# Altium schematic symbol library SchLib.SCHLIB: 71 symbols
Pins are listed as number, name and electrical type; pins without a type are passive.

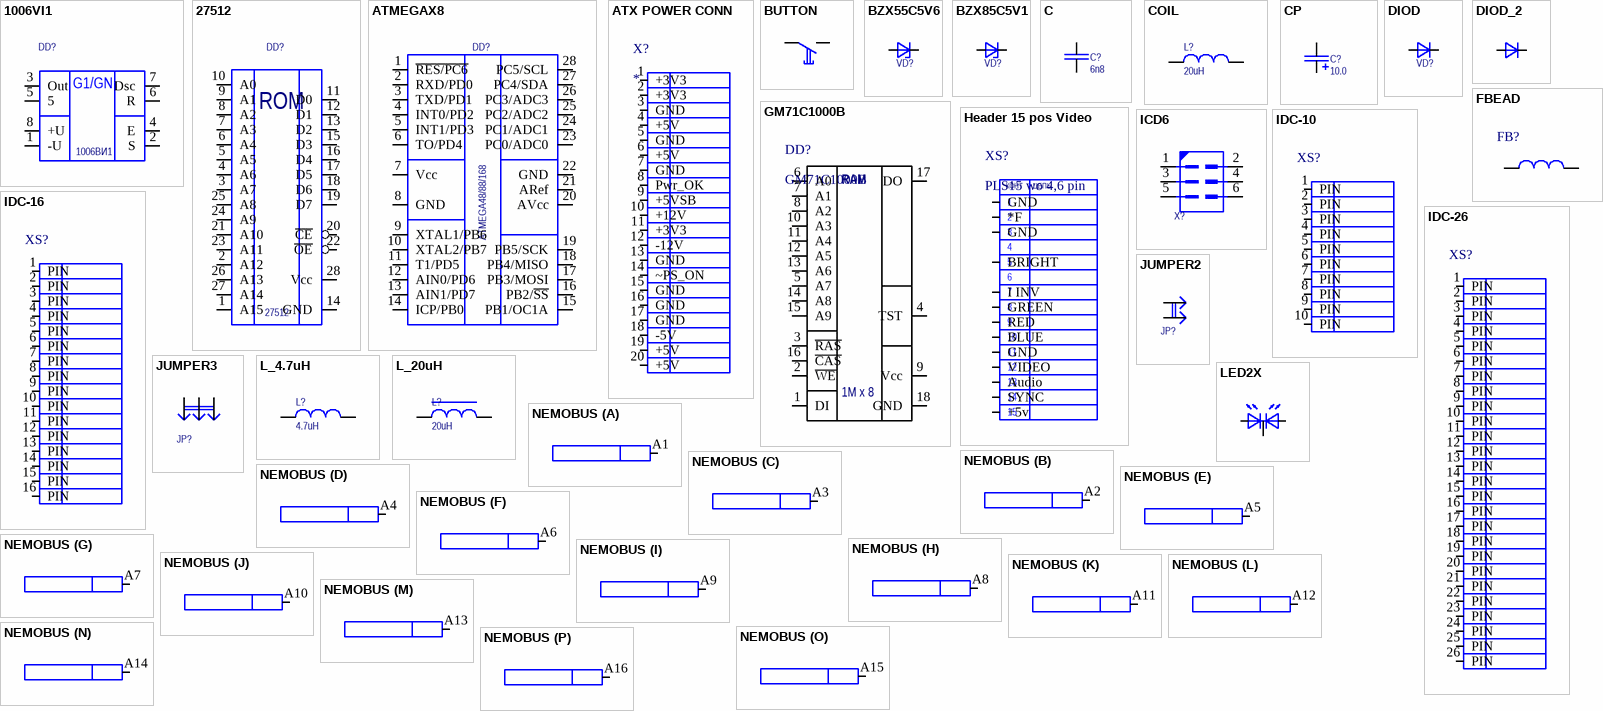
[diagram p0: symbols 1006VI1 to NEMOBUS]

## 1006VI1
designator DD?  Type: 1006ВИ1
footprint DIP8
pins: 1 -U, 2 S, 3 Out, 4 E, 5, 6 R, 7 Dsc, 8 +U
1 alternate drawing of the same symbol
text: G1/GN

## 27512
designator DD?  Type: 27512
footprint DIP28
pins: 1 A15, 2 A12, 3 A7, 4 A6, 5 A5, 6 A4, 7 A3, 8 A2, 9 A1, 10 A0, 11 D0, 12 D1, 13 D2, 14 GND, 15 D3, 16 D4, 17 D5, 18 D6, 19 D7, 20 ~{CE}, 21 A10, 22 ~{OE}, 23 A11, 24 A9, 25 A8, 26 A13, 27 A14, 28 Vcc
1 alternate drawing of the same symbol
text: ROM

## ATMEGAX8
designator DD?  Type: ATMEGA48/88/168
footprint PDIP28
pins: 1 ~{RES/PC6}, 2 RXD/PD0, 3 TXD/PD1, 4 INT0/PD2, 5 INT1/PD3, 6 TO/PD4, 7 Vcc, 8 GND, 9 XTAL1/PB6, 10 XTAL2/PB7, 11 T1/PD5, 12 AIN0/PD6, 13 AIN1/PD7, 14 ICP/PB0, 15 PB1/OC1A, 16 PB2/~{SS}, 17 PB3/MOSI, 18 PB4/MISO, 19 PB5/SCK, 20 AVcc, 21 ARef, 22 GND, 23 PC0/ADC0, 24 PC1/ADC1, 25 PC2/ADC2, 26 PC3/ADC3, 27 PC4/SDA, 28 PC5/SCL

## ATX POWER CONN
designator X?
footprint ATXPOWER
pins: 1 +3V3, 2 +3V3, 3 GND, 4 +5V, 5 GND, 6 +5V, 7 GND, 8 Pwr_OK, 9 +5VSB, 10 +12V, 11 +3V3, 12 -12V, 13 GND, 14 ~PS_ON, 15 GND, 16 GND, 17 GND, 18 -5V, 19 +5V, 20 +5V

## BUTTON
designator SB?
Type: BUTTON
pins: 1, 2
1 alternate drawing of the same symbol

## BZX55C5V6
designator VD?
Type: ZENER
footprint 1N4148
pins: 1, 2
1 alternate drawing of the same symbol

## BZX85C5V1
designator VD?
Type: ZENER
footprint BZX85C5V1
pins: 1, 2
1 alternate drawing of the same symbol

## C
designator C?  value 6n8
Type: C
footprint CAP
pins: 1, 2

## COIL
designator L?  value 20uH
Type: COIL
pins: 1, 2
1 alternate drawing of the same symbol

## CP
designator C?  value 10.0
Type: CP
footprint AL CAP P=2.5 D=3
footprint AL CAP P=5
pins: 1, 2

## DIOD
designator VD?
Type: DIOD
pins: 1, 2

## DIOD_2
designator VD?
Type: DIOD_2
footprint 1N4148
pins: 1, 2

## FBEAD
designator FB?
footprint L AIXAL
pins: 1, 2

## GM71C1000B
designator DD?
footprint DIP18
pins: 1 DI, 2 ~{WE}, 3 ~{RAS}, 4 TST, 5 A7, 6 A0, 7 A1, 8 A2, 9 Vcc, 10 A3, 11 A4, 12 A5, 13 A6, 14 A8, 15 A9, 16 ~{CAS}, 17 DO, 18 GND
text: RAM; 1M x 8

## Header 15 pos Video
designator XS?, comment PLS15 wo 4,6 pin
footprint PLS15-4-6 (VIDEO)
pins: 1 GND, 2 *F, 3 GND, 5 BRIGHT, 7 I INV, 8 GREEN, 9 RED, 10 BLUE, 11 GND, 12 VIDEO, 13 Audio, 14 SYNC, 15 +5v
text: КОНТ; ЦЕПЬ; 4; 6

## ICD6
designator X?
Type: ICD6
footprint PLD-6
pins: 1, 2, 3, 4, 5, 6

## IDC-10
designator XS?
footprint BH-10
pins: 1 PIN, 2 PIN, 3 PIN, 4 PIN, 5 PIN, 6 PIN, 7 PIN, 8 PIN, 9 PIN, 10 PIN

## IDC-16
designator XS?
footprint BH-16
pins: 1 PIN, 2 PIN, 3 PIN, 4 PIN, 5 PIN, 6 PIN, 7 PIN, 8 PIN, 9 PIN, 10 PIN, 11 PIN, 12 PIN, 13 PIN, 14 PIN, 15 PIN, 16 PIN

## IDC-26
designator XS?
footprint BH-26
pins: 1 PIN, 2 PIN, 3 PIN, 4 PIN, 5 PIN, 6 PIN, 7 PIN, 8 PIN, 9 PIN, 10 PIN, 11 PIN, 12 PIN, 13 PIN, 14 PIN, 15 PIN, 16 PIN, 17 PIN, 18 PIN, 19 PIN, 20 PIN, 21 PIN, 22 PIN, 23 PIN, 24 PIN, 25 PIN, 26 PIN

## JUMPER2
designator JP?
Type: JUMPER2
footprint PLS-2
pins: 1, 2

## JUMPER3
designator JP?
Type: JUMPER3
footprint PLS-3 (THD, 3-Leads, Body 7.62x2.49mm, Pitch 2.54mm)
pins: 1, 2, 3

## L_4.7uH
designator L?  value 4.7uH
Type: COIL
footprint L AIXAL
pins: 1, 2
1 alternate drawing of the same symbol

## L_20uH
designator L?  value 20uH
Type: COIL
footprint L_COIL
pins: 1, 2
1 alternate drawing of the same symbol

## LED2X
designator HL?
Type: LED2X
pins: 1 K, 2 A1, 4 A2

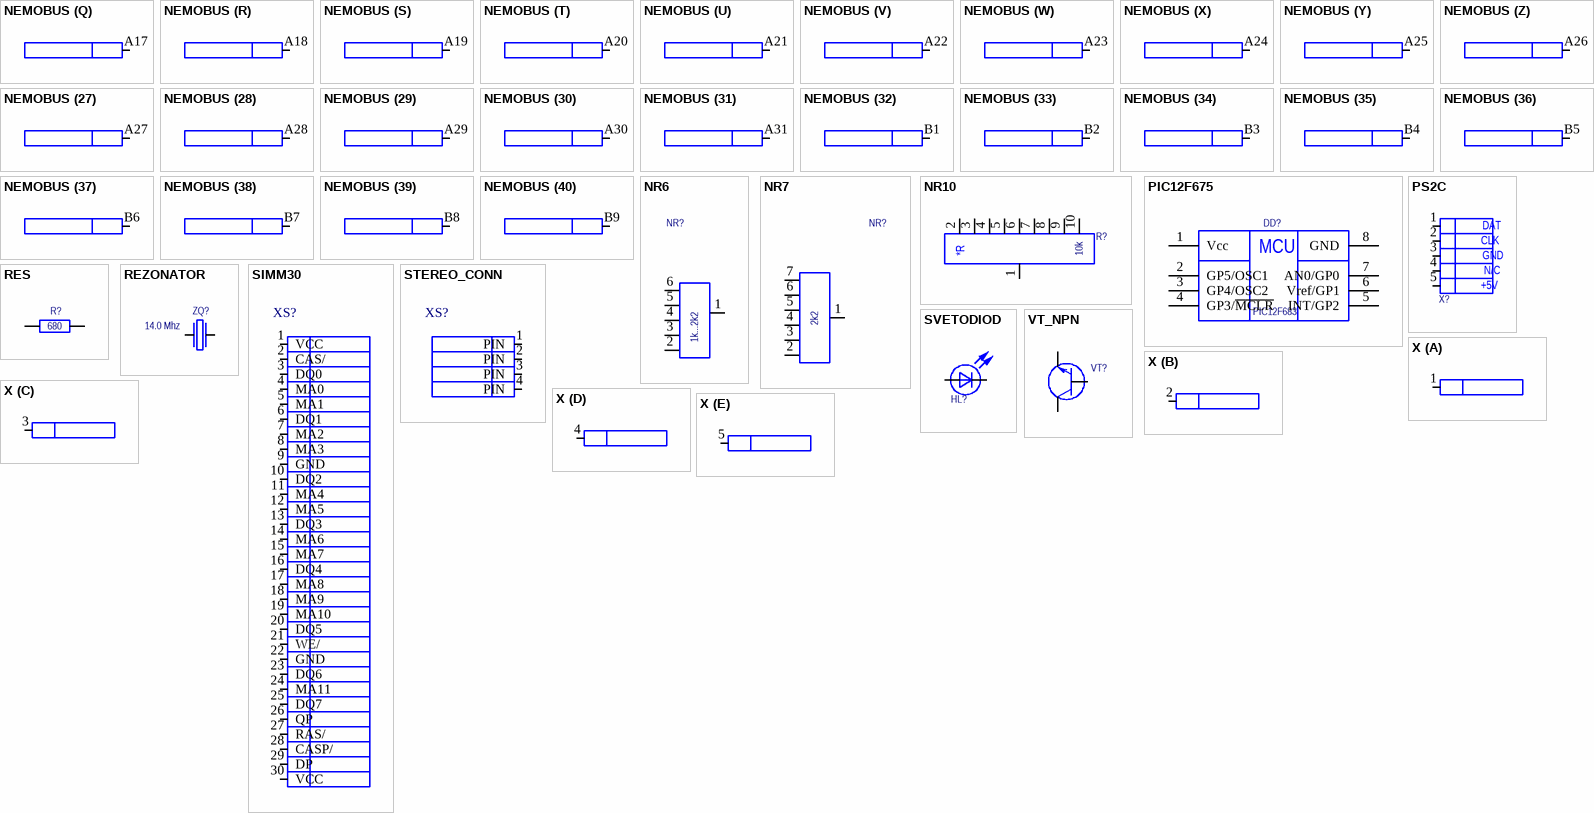
[diagram p1: symbols NEMOBUS to X]

## NEMOBUS
designator XS?
Type: NEMOBUS
footprint SLOT62_ZXSLOT(Primary)
part A pins: A1
part B pins: A2
part C pins: A3
part D pins: A4
part E pins: A5
part F pins: A6
part G pins: A7
part H pins: A8
part I pins: A9
part J pins: A10
part K pins: A11
part L pins: A12
part M pins: A13
part N pins: A14
part O pins: A15
part P pins: A16
part Q pins: A17
part R pins: A18
part S pins: A19
part T pins: A20
part U pins: A21
part V pins: A22
part W pins: A23
part X pins: A24
part Y pins: A25
part Z pins: A26
part 27 pins: A27
part 28 pins: A28
part 29 pins: A29
part 30 pins: A30
part 31 pins: A31
part 32 pins: B1
part 33 pins: B2
part 34 pins: B3
part 35 pins: B4
part 36 pins: B5
part 37 pins: B6
part 38 pins: B7
part 39 pins: B8
part 40 pins: B9
part 41 pins: B10
part 42 pins: B11
part 43 pins: B12
part 44 pins: B13
part 45 pins: B14
part 46 pins: B15
part 47 pins: B16
part 48 pins: B17
part 49 pins: B18
part 50 pins: B19
part 51 pins: B20
part 52 pins: B21
part 53 pins: B22
part 54 pins: B23
part 55 pins: B24
part 56 pins: B25
part 57 pins: B26
part 58 pins: B27
part 59 pins: B28
part 60 pins: B29
part 61 pins: B30
part 62 pins: B31

## NR6
designator NR?  value 1k...2k2
Type: NR6
footprint SIL6
pins: 1, 2, 3, 4, 5, 6
1 alternate drawing of the same symbol

## NR7
designator NR?  value 2k2
Type: NR7
footprint SIL7
pins: 1, 2, 3, 4, 5, 6, 7
1 alternate drawing of the same symbol

## NR10
designator R?  value 10k
Type: NR10
footprint SIL10
pins: 1, 2, 3, 4, 5, 6, 7, 8, 9, 10
1 alternate drawing of the same symbol
text: *R

## PIC12F675
designator DD?  Type: PIC12F683
footprint DIP8
pins: 1 Vcc, 2 GP5/OSC1, 3 GP4/OSC2, 4 GP3/~{MCLR}, 5 INT/GP2, 6 Vref/GP1, 7 AN0/GP0, 8 GND
text: MCU

## PS2C
designator X?
Type: PS2C
footprint PS2_HEADER
pins: 1, 2, 3, 4, 5
text: DAT; CLK; GND; N/C; +5V

## RES
designator R?  value 680
Type: RES
footprint RES
pins: 1, 2

## REZONATOR
designator ZQ?  value 14.0 Mhz
Type: REZONATOR
footprint HC49
footprint REZONATOR
pins: 1, 2

## SIMM30
designator XS?
footprint SIMM30
pins: 1 VCC, 2 CAS/, 3 DQ0, 4 MA0, 5 MA1, 6 DQ1, 7 MA2, 8 MA3, 9 GND, 10 DQ2, 11 MA4, 12 MA5, 13 DQ3, 14 MA6, 15 MA7, 16 DQ4, 17 MA8, 18 MA9, 19 MA10, 20 DQ5, 21 WE/, 22 GND, 23 DQ6, 24 MA11, 25 DQ7, 26 QP, 27 RAS/, 28 CASP/, 29 DP, 30 VCC

## STEREO_CONN
designator XS?
footprint STEREO_CONN
pins: 1 PIN, 2 PIN, 3 PIN, 4 PIN

## SVETODIOD
designator HL?
Type: SVETODIOD
footprint PLS-2
pins: 1, 2

## VT_NPN
designator VT?
Type: VT_NPN
footprint VT
pins: B, E, K
1 alternate drawing of the same symbol

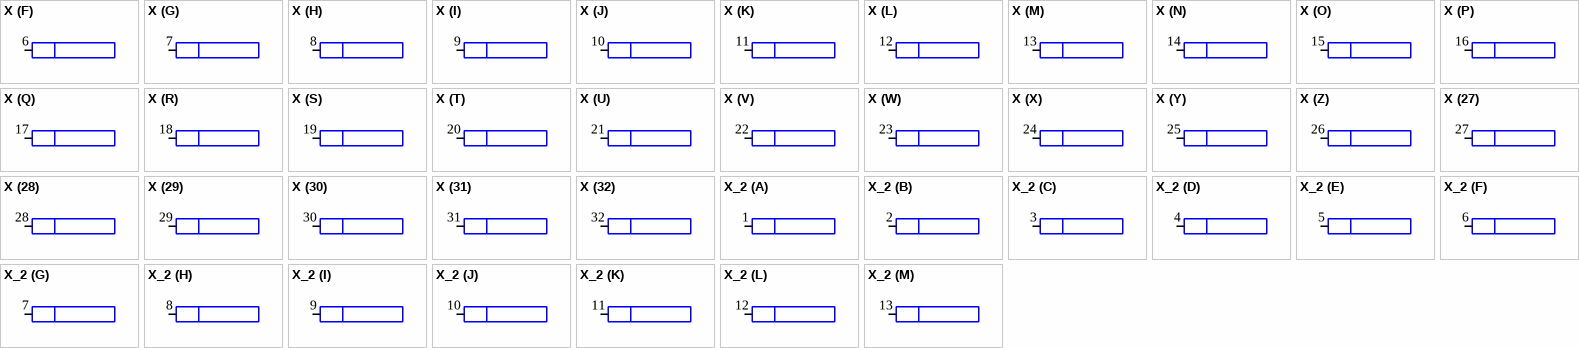
[diagram p2: symbols X to X_2]

## X
designator XS?
Type: X
part A pins: 1
part B pins: 2
part C pins: 3
part D pins: 4
part E pins: 5
part F pins: 6
part G pins: 7
part H pins: 8
part I pins: 9
part J pins: 10
part K pins: 11
part L pins: 12
part M pins: 13
part N pins: 14
part O pins: 15
part P pins: 16
part Q pins: 17
part R pins: 18
part S pins: 19
part T pins: 20
part U pins: 21
part V pins: 22
part W pins: 23
part X pins: 24
part Y pins: 25
part Z pins: 26
part 27 pins: 27
part 28 pins: 28
part 29 pins: 29
part 30 pins: 30
part 31 pins: 31
part 32 pins: 32

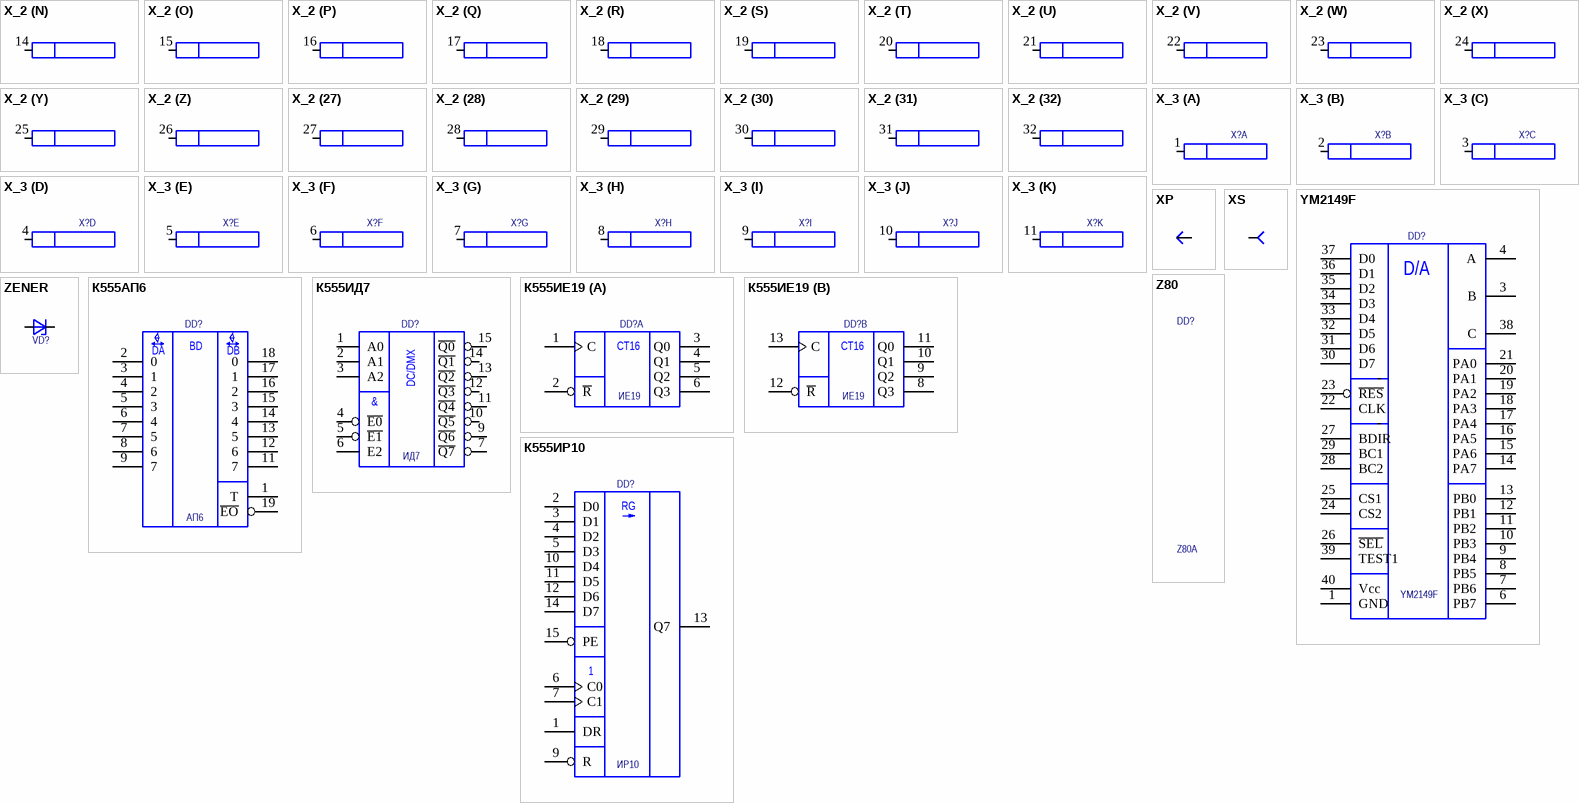
[diagram p3: symbols X_2 to К555ИР10]

## X_2
designator XS?
Type: X
part A pins: 1
part B pins: 2
part C pins: 3
part D pins: 4
part E pins: 5
part F pins: 6
part G pins: 7
part H pins: 8
part I pins: 9
part J pins: 10
part K pins: 11
part L pins: 12
part M pins: 13
part N pins: 14
part O pins: 15
part P pins: 16
part Q pins: 17
part R pins: 18
part S pins: 19
part T pins: 20
part U pins: 21
part V pins: 22
part W pins: 23
part X pins: 24
part Y pins: 25
part Z pins: 26
part 27 pins: 27
part 28 pins: 28
part 29 pins: 29
part 30 pins: 30
part 31 pins: 31
part 32 pins: 32

## X_3
designator X?
Type: X_3
part A pins: 1
part B pins: 2
part C pins: 3
part D pins: 4
part E pins: 5
part F pins: 6
part G pins: 7
part H pins: 8
part I pins: 9
part J pins: 10
part K pins: 11

## XP
designator XP?
Type: XP
pins: 1
2 alternate drawings of the same symbol

## XS
designator KP?
Type: XS
footprint Socket
pins: 1
1 alternate drawing of the same symbol

## YM2149F
designator DD?  Type: YM2149F
footprint DIP40
pins: 1 GND, 2 N.C., 3 B, 4 A, 5 N.C., 6 PB7, 7 PB6, 8 PB5, 9 PB4, 10 PB3, 11 PB2, 12 PB1, 13 PB0, 14 PA7, 15 PA6, 16 PA5, 17 PA4, 18 PA3, 19 PA2, 20 PA1, 21 PA0, 22 CLK, 23 ~{RES}, 24 CS2, 25 CS1, 26 ~{SEL}, 27 BDIR, 28 BC2, 29 BC1, 30 D7, 31 D6, 32 D5, 33 D4, 34 D3, 35 D2, 36 D1, 37 D0, 38 C, 39 TEST1, 40 Vcc
1 alternate drawing of the same symbol
text: D/A

## Z80
designator DD?  Type: Z80A
footprint DIP40
1 alternate drawing of the same symbol

## ZENER
designator VD?
Type: ZENER
pins: 1, 2
1 alternate drawing of the same symbol

## К555АП6
designator DD?  Type: АП6
footprint DIP20
pins: 1 T, 2 0, 3 1, 4 2, 5 3, 6 4, 7 5, 8 6, 9 7, 10 GND (power) hidden to GND, 11 7, 12 6, 13 5, 14 4, 15 3, 16 2, 17 1, 18 0, 19 ~{EO}, 20 +5V (power) hidden to +5V
text: BD; DA; DB

## К555ИД7
designator DD?  Type: ИД7
footprint DIP16
pins: 1 A0, 2 A1, 3 A2, 4 ~{E0}, 5 ~{E1}, 6 E2, 7 ~{Q7}, 8 GND (power) hidden to GND, 9 ~{Q6}, 10 ~{Q5}, 11 ~{Q4}, 12 ~{Q3}, 13 ~{Q2}, 14 ~{Q1}, 15 ~{Q0}, 16 +5V (power) hidden to +5V
text: DC/DMX; &

## К555ИЕ19
designator DD?  Type: ИЕ19
footprint DIP14
pins on every part: 7 GND (power) hidden to GND, 14 +5V (power) hidden to +5V
part A pins: 1 C, 2 ~{R}, 3 Q0, 4 Q1, 5 Q2, 6 Q3
part B pins: 8 Q3, 9 Q2, 10 Q1, 11 Q0, 12 ~{R}, 13 C
part A text: CT16
part B text: CT16

## К555ИР10
designator DD?  Type: ИР10
footprint DIP16
pins: 1 DR, 2 D0, 3 D1, 4 D2, 5 D3, 6 C0, 7 C1, 8 GND (power) hidden to GND, 9 R, 10 D4, 11 D5, 12 D6, 13 Q7, 14 D7, 15 PE, 16 +5V (power) hidden to +5V
text: RG

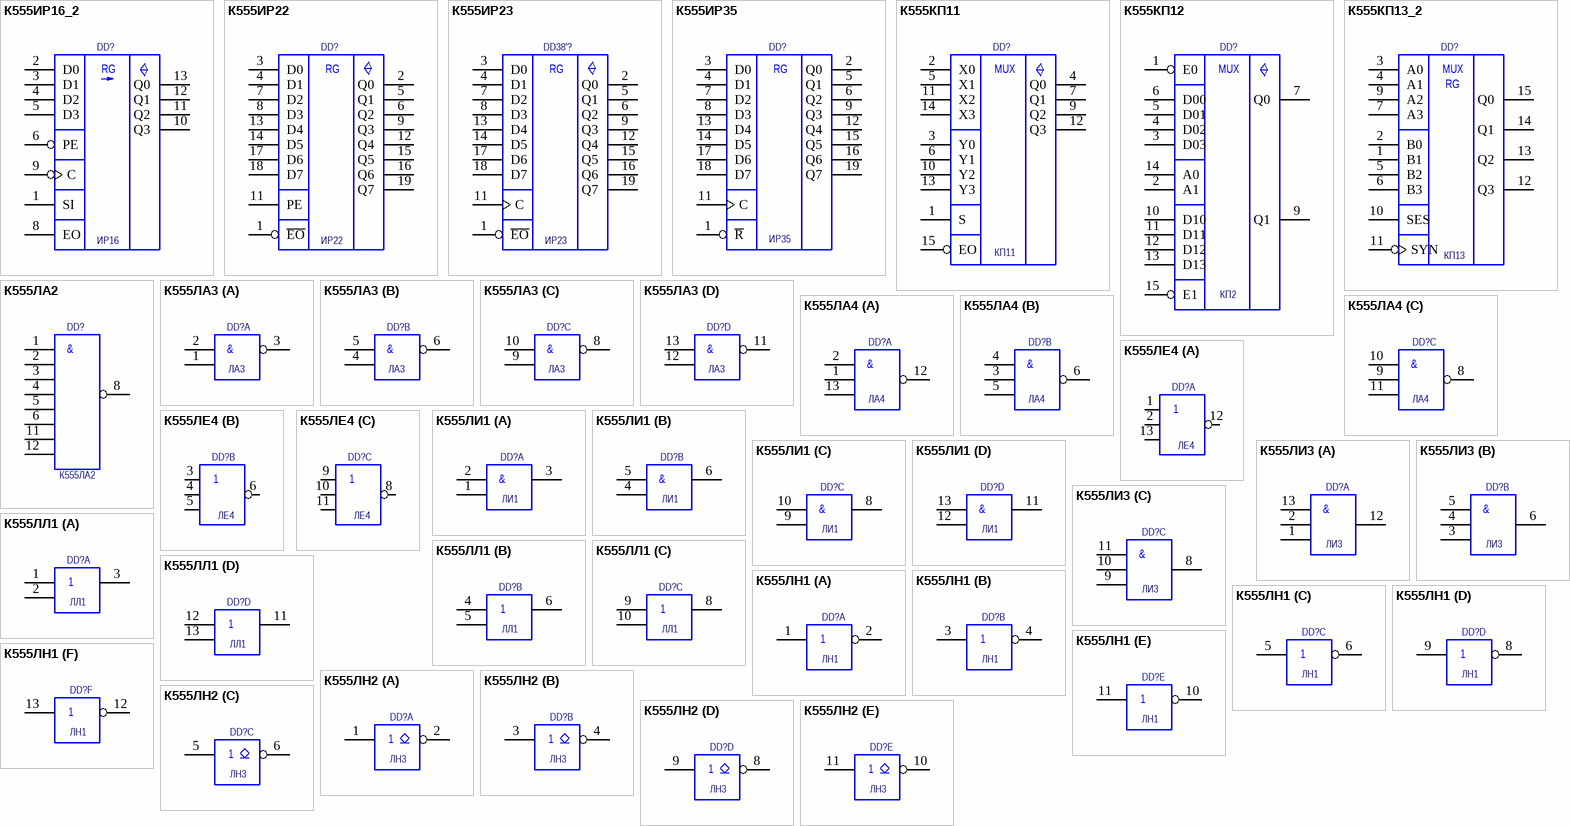
[diagram p4: symbols К555ИР16_2 to К555ЛН2]

## К555ИР16_2
designator DD?  Type: ИР16
footprint DIP14
pins: 1 SI, 2 D0, 3 D1, 4 D2, 5 D3, 6 PE, 7 GND (power) hidden to GND, 8 EO, 9 C, 10 Q3, 11 Q2, 12 Q1, 13 Q0, 14 +5V (power) hidden to +5V
text: RG

## К555ИР22
designator DD?  Type: ИР22
footprint DIP20
pins: 1 ~{EO}, 2 Q0, 3 D0, 4 D1, 5 Q1, 6 Q2, 7 D2, 8 D3, 9 Q3, 10 GND (power) hidden to GND, 11 PE, 12 Q4, 13 D4, 14 D5, 15 Q5, 16 Q6, 17 D6, 18 D7, 19 Q7, 20 +5V (power) hidden to +5V
text: RG

## К555ИР23
designator DD38'?  Type: ИР23
footprint DIP20
footprint DIP20 2LVL
pins: 1 ~{EO}, 2 Q0, 3 D0, 4 D1, 5 Q1, 6 Q2, 7 D2, 8 D3, 9 Q3, 10 GND (power) hidden to GND, 11 C, 12 Q4, 13 D4, 14 D5, 15 Q5, 16 Q6, 17 D6, 18 D7, 19 Q7, 20 +5V (power) hidden to +5V
text: RG

## К555ИР35
designator DD?  Type: ИР35
footprint DIP20
pins: 1 ~{R}, 2 Q0, 3 D0, 4 D1, 5 Q1, 6 Q2, 7 D2, 8 D3, 9 Q3, 10 GND (power) hidden to GND, 11 C, 12 Q4, 13 D4, 14 D5, 15 Q5, 16 Q6, 17 D6, 18 D7, 19 Q7, 20 +5V (power) hidden to +5V
text: RG

## К555КП11
designator DD?  Type: КП11
footprint DIP16
pins: 1 S, 2 X0, 3 Y0, 4 Q0, 5 X1, 6 Y1, 7 Q1, 8 GND (power) hidden to GND, 9 Q2, 10 Y2, 11 X2, 12 Q3, 13 Y3, 14 X3, 15 EO, 16 +5V (power) hidden to +5V
text: MUX

## К555КП12
designator DD?  Type: КП2
footprint DIP16
pins: 1 E0, 2 A1, 3 D03, 4 D02, 5 D01, 6 D00, 7 Q0, 8 GND (power) hidden to GND, 9 Q1, 10 D10, 11 D11, 12 D12, 13 D13, 14 A0, 15 E1, 16 +5V (power) hidden to +5V
text: MUX

## К555КП13_2
designator DD?  Type: КП13
footprint DIP16
pins: 1 B1, 2 B0, 3 A0, 4 A1, 5 B2, 6 B3, 7 A3, 8 GND (power) hidden to GND, 9 A2, 10 SES, 11 SYN, 12 Q3, 13 Q2, 14 Q1, 15 Q0, 16 +5V (power) hidden to +5V
text: MUX; RG

## К555ЛА2
designator DD?  Type: К555ЛА2
footprint DIP14
pins: 1, 2, 3, 4, 5, 6, 7 GND (power) hidden to GND, 8, 9 (power) hidden, 10 (power) hidden, 11, 12, 13 (power) hidden, 14 GND (power) hidden to GND
text: &

## К555ЛА3
designator DD?  Type: ЛА3
footprint DIP14
pins on every part: 7 GND (power) hidden to GND, 14 +5V (power) hidden to +5V
part A pins: 1, 2, 3
part B pins: 4, 5, 6
part C pins: 8, 9, 10
part D pins: 11, 12, 13
part A text: &
part B text: &
part C text: &
part D text: &

## К555ЛА4
designator DD?  Type: ЛА4
footprint DIP14
pins on every part: 7 GND (power) hidden to GND, 14 +5V (power) hidden to +5V
part A pins: 1, 2, 12, 13
part B pins: 3, 4, 5, 6
part C pins: 8, 9, 10, 11
part A text: &
part B text: &
part C text: &

## К555ЛЕ4
designator DD?  Type: ЛЕ4
footprint DIP14
pins on every part: 7 GND (power) hidden to GND, 14 +5V (power) hidden to +5V
part A pins: 1, 2, 12, 13
part B pins: 3, 4, 5, 6
part C pins: 8, 9, 10, 11

## К555ЛИ1
designator DD?  Type: ЛИ1
footprint DIP14
pins on every part: 7 GND (power) hidden to GND, 14 +5V (power) hidden to +5V
part A pins: 1, 2, 3
part B pins: 4, 5, 6
part C pins: 8, 9, 10
part D pins: 11, 12, 13
part A text: &
part B text: &
part C text: &
part D text: &

## К555ЛИ3
designator DD?  Type: ЛИ3
footprint DIP14
pins on every part: 7 GND (power) hidden to GND, 14 +5V (power) hidden to +5V
part A pins: 1, 2, 12, 13
part B pins: 3, 4, 5, 6
part C pins: 8, 9, 10, 11
part A text: &
part B text: &
part C text: &

## К555ЛЛ1
designator DD?  Type: ЛЛ1
footprint DIP14
pins on every part: 7 GND (power) hidden to GND, 14 +5V (power) hidden to +5V
part A pins: 1, 2, 3
part B pins: 4, 5, 6
part C pins: 8, 9, 10
part D pins: 11, 12, 13

## К555ЛН1
designator DD?  Type: ЛН1
footprint DIP14
pins on every part: 7 GND (power) hidden to GND, 14 +5V (power) hidden to +5V
part A pins: 1, 2
part B pins: 3, 4
part C pins: 5, 6
part D pins: 8, 9
part E pins: 10, 11
part F pins: 12, 13

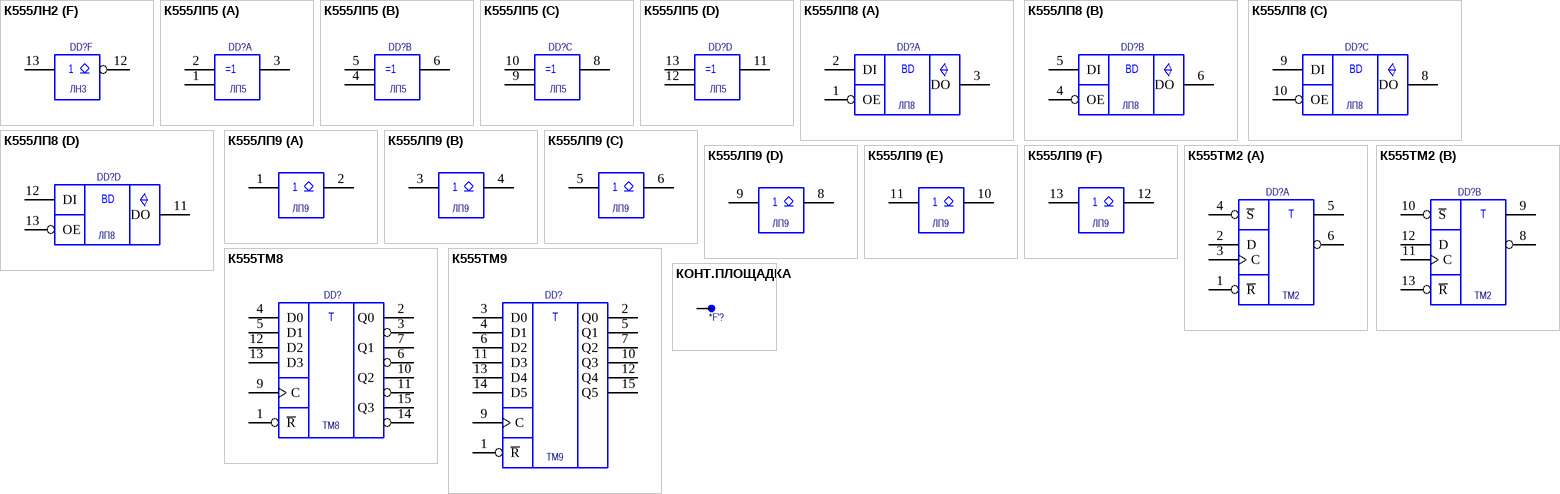
[diagram p5: symbols К555ЛН2 to КОНТ.ПЛОЩАДКА]

## К555ЛН2
designator DD?  Type: ЛН3
footprint DIP14
pins on every part: 7 GND (power) hidden to GND, 14 +5V (power) hidden to +5V
part A pins: 1, 2
part B pins: 3, 4
part C pins: 5, 6
part D pins: 8, 9
part E pins: 10, 11
part F pins: 12, 13

## К555ЛП5
designator DD?  Type: ЛП5
footprint DIP14
pins on every part: 7 GND (power) hidden to GND, 14 +5V (power) hidden to +5V
part A pins: 1, 2, 3
part B pins: 4, 5, 6
part C pins: 8, 9, 10
part D pins: 11, 12, 13

## К555ЛП8
designator DD?  Type: ЛП8
footprint DIP14
pins on every part: 7 GND (power) hidden to GND, 14 +5V (power) hidden to +5V
part A pins: 1 OE, 2 DI, 3 DO
part B pins: 4 OE, 5 DI, 6 DO
part C pins: 8 DO, 9 DI, 10 OE
part D pins: 11 DO, 12 DI, 13 OE
part A text: BD
part B text: BD
part C text: BD
part D text: BD

## К555ЛП9
designator DD?  Type: ЛП9
footprint DIP14
pins on every part: 7 GND (power) hidden to GND, 14 +5V (power) hidden to +5V
part A pins: 1, 2
part B pins: 3, 4
part C pins: 5, 6
part D pins: 8, 9
part E pins: 10, 11
part F pins: 12, 13

## К555ТМ2
designator DD?  Type: ТМ2
footprint DIP14
pins on every part: 7 GND (power) hidden to GND, 14 +5V (power) hidden to +5V
part A pins: 1 ~{R}, 2 D, 3 C, 4 ~{S}, 5, 6
part B pins: 8, 9, 10 ~{S}, 11 C, 12 D, 13 ~{R}
part A text: T
part B text: T

## К555ТМ8
designator DD?  Type: ТМ8
footprint DIP16
pins: 1 ~{R}, 2 Q0, 3, 4 D0, 5 D1, 6, 7 Q1, 8 GND (power) hidden to GND, 9 C, 10 Q2, 11, 12 D2, 13 D3, 14, 15 Q3, 16 +5V (power) hidden to +5V
text: T

## К555ТМ9
designator DD?  Type: ТМ9
footprint DIP16
pins: 1 ~{R}, 2 Q0, 3 D0, 4 D1, 5 Q1, 6 D2, 7 Q2, 8 GND (power) hidden to GND, 9 C, 10 Q3, 11 D3, 12 Q4, 13 D4, 14 D5, 15 Q5, 16 +5V (power) hidden to +5V
text: T

## КОНТ.ПЛОЩАДКА
designator *F'?
Type: КОНТ.ПЛОЩАДКА
pins: 1